# Altium footprint library 23365821.PcbLib: 1 footprints
Each footprint in its own frame and in the unit in brackets; x right, y up, seen from the top. Pads: shape width x height; smd on the part's side, far side on the other; paste and mask are expansions set on the pad; w line width, h text height; cw(c..) or ccw(c..) is an arc to the next point about the centre after c.
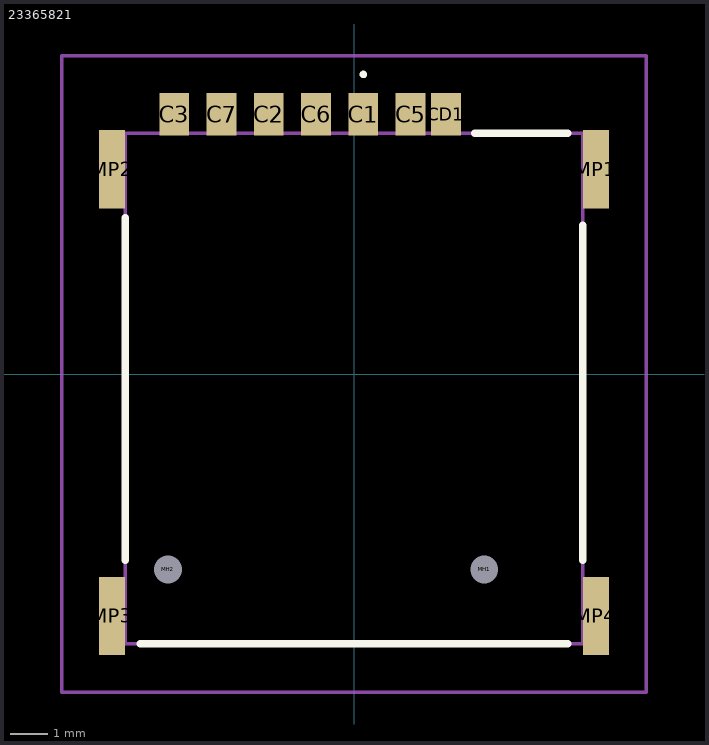
[diagram p0: the footprint, top view; thin cyan lines are the x and y axes]

## 23365821 [mm]
pads (13):
  rect 0.8x1.14 smd: C1(0.25,6.98) C2(-2.29,6.98) C3(-4.83,6.98) C5(1.52,6.98) C6(-1.02,6.98) C7(-3.56,6.98) CD1(2.47,6.98)
  round 0.375 hole 0.75 unplated: MH1(3.5,-5.25) MH2(-5,-5.25)
  rect 0.7x2.1 smd: MP1(6.5,5.5) MP2(-6.5,5.5) MP3(-6.5,-6.5) MP4(6.5,-6.5)
Top Overlay:
  lines w0.1: 0.25,8 0.25,8 ; 0.25,8 ccw(c0.25,8.05) 0.25,8.1 ; 0.25,8 cw(c0.25,8.05) 0.25,8.1 ; 0.25,8.1 0.25,8.1
  lines w0.2: -6.145,-5 -6.145,4.2 ; -5.75,-7.25 5.75,-7.25 ; 3.25,6.47 5.75,6.47 ; 6.145,-5 6.145,4
Mechanical 15:
  lines w0.1: -6.145,-7.25 6.145,-7.25 6.145,6.47 -6.145,6.47 -6.145,-7.25
Mechanical 20:
  lines w0.1: -7.85,-8.55 7.85,-8.55 7.85,8.55 -7.85,8.55 -7.85,-8.55